# EAGLE library part WE-TPB_3XL (library WE-TPB)
WE-TPB Three Phase Common Mode Power Line Choke Characteristics Application up to 500 VAC High permeability MnZn Ferrite core material Insulation through winding spacer Specification according to EN 60938-2 Air and creepage distances ≥ 5 mm Up to 24 A rated current Suppression frequency range: 1 kHz to 1 MHz Operating temperature: -40 °C to +125 °C Flammability corresponding to UL 94 V-0 Climatic category 40/125/21 Applications Power electronics Power line input filter Radio interference suppression in motors Suppression for common mode noise Frequency converter Power supplies Charging stations <https://katalog.we-online.com/media/images/v2/o123313v209%20Family_WE-TPB_3XL_744833xxx.jpg> Details see: https://katalog.we-online.com/en/pbs/WE-TPB Updated by Ella Wu 2019-05-31 2019 (C) Wurth Elektronik
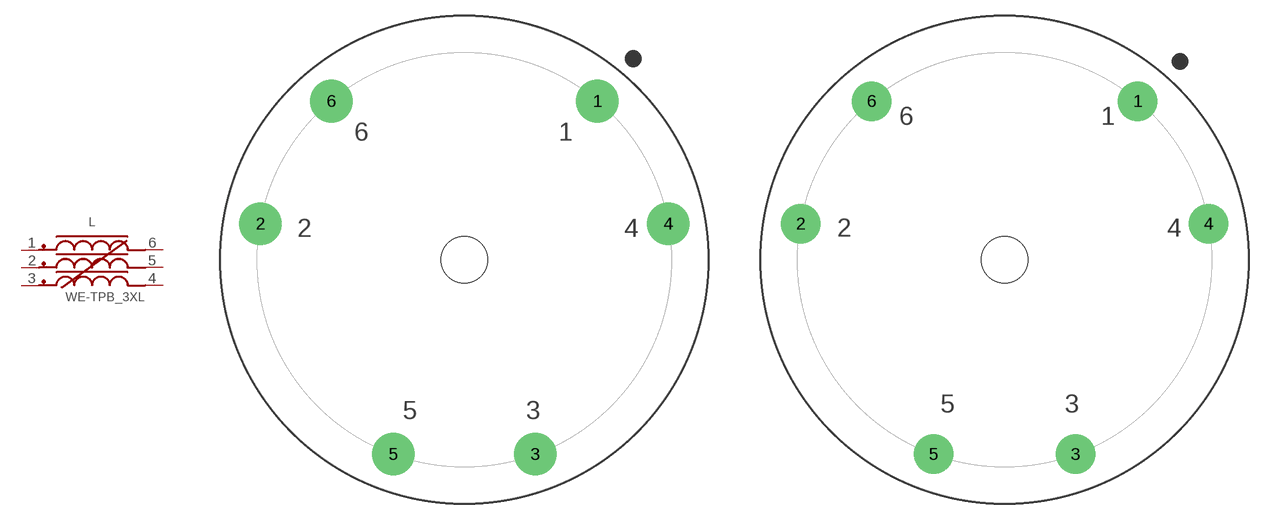
[diagram p0: symbol with the pads of WE-TPB_3XL_744833005240; footprints WE-TPB_3XL_744833005240, WE-TPB_3XL_744833011180]

Designator prefix L

## WE-TPB_3XL_744833005240 (DATASHEET-URL: https://katalog.we-online.com/pbs/datasheet/744833005240.pdf; IR: 24A; MOUNT: THT; PART-NUMBER: 744833005240; RDC: 3mOhm; VALUE: 0.52mH; VR: 500 V (AC); VT: 2500 V (AC))  [WE-TPB_3XL_744833005240]
1  1  pas
2  2  pas
3  3  pas
4  4  pas
5  5  pas
6  6  pas

## WE-TPB_3XL_744833011180 (DATASHEET-URL: https://katalog.we-online.com/pbs/datasheet/744833011180.pdf; IR: 18A; MOUNT: THT; PART-NUMBER: 744833011180; RDC: 7mOhm; VALUE: 1.1mH; VR: 500 V (AC); VT: 2500 V (AC))  [WE-TPB_3XL_744833011180]
Pads as for WE-TPB_3XL_744833005240

## WE-TPB_3XL_744833027110 (DATASHEET-URL: https://katalog.we-online.com/pbs/datasheet/744833027110.pdf; IR: 11A; MOUNT: THT; PART-NUMBER: 744833027110; RDC: 18mOhm; VALUE: 2.7mH; VR: 500 V (AC); VT: 2500 V (AC))  [WE-TPB_3XL_744833027110]
Pads as for WE-TPB_3XL_744833005240

## WE-TPB_3XL_744833052100 (DATASHEET-URL: https://katalog.we-online.com/pbs/datasheet/744833052100.pdf; IR: 10A; MOUNT: THT; PART-NUMBER: 744833052100; RDC: 27mOhm; VALUE: 5.2mH; VR: 500 V (AC); VT: 2500 V (AC))  [WE-TPB_3XL_744833052100]
Pads as for WE-TPB_3XL_744833005240

## WE-TPB_3XL_744833084075 (DATASHEET-URL: https://katalog.we-online.com/pbs/datasheet/744833084075.pdf; IR: 7.5A; MOUNT: THT; PART-NUMBER: 744833084075; RDC: 50mOhm; VALUE: 8.4mH; VR: 500 V (AC); VT: 2500 V (AC))  [WE-TPB_3XL_744833084075]
Pads as for WE-TPB_3XL_744833005240

## WE-TPB_3XL_744833120060 (DATASHEET-URL: https://katalog.we-online.com/pbs/datasheet/744833120060.pdf; IR: 6A; MOUNT: THT; PART-NUMBER: 744833120060; RDC: 65mOhm; VALUE: 12mH; VR: 500 V (AC); VT: 2500 V (AC))  [WE-TPB_3XL_744833120060]
Pads as for WE-TPB_3XL_744833005240

## Footprint WE-TPB_3XL_744833005240 (pad centres in mm)
WE-TPB Three Phase Common Mode Power Line Choke
drill 3.1: 1 12.856,15.321; 2 -19.696,3.473; 3 6.84,-18.794; 4 19.696,3.473; 5 -6.84,-18.794; 6 -12.856,15.321
hole 4.5 at 0,0

## Footprint WE-TPB_3XL_744833011180 (pad centres in mm)
WE-TPB Three Phase Common Mode Power Line Choke
drill 2.8: 1 12.856,15.321; 2 -19.696,3.473; 3 6.84,-18.794; 4 19.696,3.473; 5 -6.84,-18.794; 6 -12.856,15.321
hole 4.5 at 0,0

## Footprint WE-TPB_3XL_744833027110 (pad centres in mm)
WE-TPB Three Phase Common Mode Power Line Choke
drill 2: 1 12.856,15.321; 2 -19.696,3.473; 3 6.84,-18.794; 4 19.696,3.473; 5 -6.84,-18.794; 6 -12.856,15.321
hole 4.5 at 0,0

## Footprint WE-TPB_3XL_744833052100 (pad centres in mm)
WE-TPB Three Phase Common Mode Power Line Choke
drill 2: 1 12.856,15.321; 2 -19.696,3.473; 3 6.84,-18.794; 4 19.696,3.473; 5 -6.84,-18.794; 6 -12.856,15.321
hole 4.5 at 0,0

## Footprint WE-TPB_3XL_744833084075 (pad centres in mm)
WE-TPB Three Phase Common Mode Power Line Choke
drill 1.5: 1 12.856,15.321; 2 -19.696,3.473; 3 6.84,-18.794; 4 19.696,3.473; 5 -6.84,-18.794; 6 -12.856,15.321
hole 4.5 at 0,0

## Footprint WE-TPB_3XL_744833120060 (pad centres in mm)
WE-TPB Three Phase Common Mode Power Line Choke
drill 1.5: 1 12.856,15.321; 2 -19.696,3.473; 3 6.84,-18.794; 4 19.696,3.473; 5 -6.84,-18.794; 6 -12.856,15.321
hole 4.5 at 0,0